# Altium integrated library Connectors.IntLib: 31 symbols
Pins are listed as number, name and electrical type; pins without a type are passive.

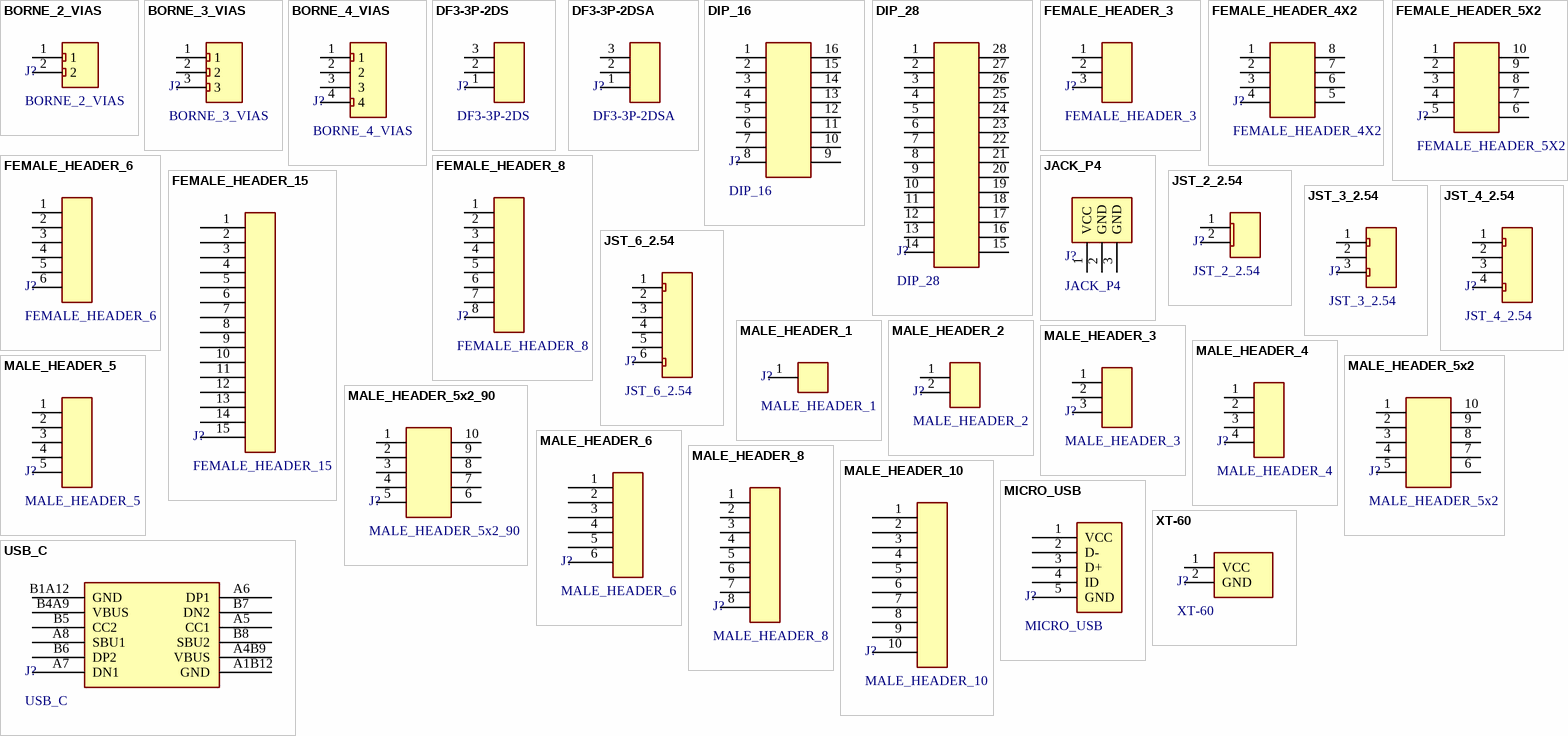
[diagram p0: symbols BORNE_2_VIAS to XT-60]

## BORNE_2_VIAS
designator J?
Borne 2 Vias, 5mm.; JLCPCB PN: C91153
footprint BORNE_2_VIAS
pins: 1, 2

## BORNE_3_VIAS
designator J?
Borne 3 Vias, 5mm.; JLCPCB PN: C91154
footprint BORNE_3_VIAS
pins: 1, 2, 3

## BORNE_4_VIAS
designator J?
Borne 4 Vias, 5mm.; JLCPCB PN: C2915641
footprint BORNE_4_VIAS
pins: 1, 2, 3, 4

## DF3-3P-2DS
designator J?
Angled Female Connector 3 Pins, 2mm.; Digikey PN: H2106-ND
footprint DF3-3P-2DS
pins: 1, 2, 3

## DF3-3P-2DSA
designator J?
Right Female Connector 3 Pins, 2mm.; Digikey PN: H3922-ND
footprint DF3-3P-2DSA
pins: 1, 2, 3

## DIP_16
designator J?
Dip 16 Pins; JLCPCB PN: C2874010
footprint DIP_16
pins: 1, 2, 3, 4, 5, 6, 7, 8, 9, 10, 11, 12, 13, 14, 15, 16

## DIP_28
designator J?
Dip 28 Pins; JLCPCB PN: C2874014
footprint DIP_28
pins: 1, 2, 3, 4, 5, 6, 7, 8, 9, 10, 11, 12, 13, 14, 15, 16, 17, 18, 19, 20, 21, 22, 23, 24, 25, 26, 27, 28

## FEMALE_HEADER_3
designator J?
Female Header Connector 2.54mm 3 Pins.
footprint FEMALE_3
pins: 1, 2, 3

## FEMALE_HEADER_4X2
designator J?
Female Header Connector 2.54mm 4x2 Pins.
footprint FEMALE_4X2
pins: 1, 2, 3, 4, 5, 6, 7, 8

## FEMALE_HEADER_5X2
designator J?
Female Header Connector 2.54mm 5x2 Pins.
footprint FEMALE_5X2
pins: 1, 2, 3, 4, 5, 6, 7, 8, 9, 10

## FEMALE_HEADER_6
designator J?
Female Header Connector 2.54mm 6 Pins.
footprint FEMALE_6
pins: 1, 2, 3, 4, 5, 6

## FEMALE_HEADER_8
designator J?
Female Header Connector 2.54mm 8 Pins.
footprint FEMALE_8
pins: 1, 2, 3, 4, 5, 6, 7, 8

## FEMALE_HEADER_15
designator J?
Female Header Connector 2.54mm 15 Pins.
footprint FEMALE_15
pins: 1, 2, 3, 4, 5, 6, 7, 8, 9, 10, 11, 12, 13, 14, 15

## JACK_P4
designator J?
9V Battery Connector Jack P4.
footprint JACK_P4
pins: 1 VCC, 2 GND, 3 GND

## JST_2_2.54
designator J?
Female Connector JST 2 Vias, 2.54mm.
footprint JST_2_2.54
footprint JST_2_90_2.54
pins: 1, 2

## JST_3_2.54
designator J?
Female Connector JST 3 Vias, 2.54mm, Angled ou Right.
footprint JST_3_2.54
pins: 1, 2, 3

## JST_4_2.54
designator J?
Female Connector JST 4 Vias, 2.54mm.
footprint JST_4_2.54
pins: 1, 2, 3, 4

## JST_6_2.54
designator J?
Female Connector JST 6 Vias, 2.54mm.
footprint JST_6_2.54
pins: 1, 2, 3, 4, 5, 6

## MALE_HEADER_1
designator J?
Male Header Connector 2.54mm 1 Pins.
footprint MALE_1
pins: 1

## MALE_HEADER_2
designator J?
Male Header Connector 2.54mm 2 Pins.
footprint MALE_2
pins: 1, 2

## MALE_HEADER_3
designator J?
Male Header Connector 2.54mm 3 Pins.
footprint MALE_3
pins: 1, 2, 3

## MALE_HEADER_4
designator J?
Male Header Connector 2.54mm 4 Pins.
footprint MALE_4
pins: 1, 2, 3, 4

## MALE_HEADER_5
designator J?
Male Header Connector 2.54mm 5 Pins.
footprint MALE_5
pins: 1, 2, 3, 4, 5

## MALE_HEADER_5x2
designator J?
Male Header Connector 2.54mm 5X2 Pins.
footprint MALE_5X2
pins: 1, 2, 3, 4, 5, 6, 7, 8, 9, 10

## MALE_HEADER_5x2_90
designator J?
Male Header Angled Connector 2.54mm 5X2 Pins.
footprint MALE_5X2_90
pins: 1, 2, 3, 4, 5, 6, 7, 8, 9, 10

## MALE_HEADER_6
designator J?
Male Header Connector 2.54mm 6 Pins.
footprint MALE_6
pins: 1, 2, 3, 4, 5, 6

## MALE_HEADER_8
designator J?
Male Header Connector 2.54mm 8 Pins.
footprint MALE_8
pins: 1, 2, 3, 4, 5, 6, 7, 8

## MALE_HEADER_10
designator J?
Male Header Connector 2.54mm 10 Pins.
footprint MALE_10
pins: 1, 2, 3, 4, 5, 6, 7, 8, 9, 10

## MICRO_USB
designator J?
MICRO USB Connector SMD.; JLCPCB PN: C145792
footprint MICRO_USB
pins: 1 VCC, 2 D-, 3 D+, 4 ID, 5 GND

## USB_C
designator J?
3A USB Type C SMD 16 Pins; JLCPCB PN: C2927037
footprint USB_C
pins: A1B12 GND, A4B9 VBUS, A5 CC1, A6 DP1, A7 DN1, A8 SBU1, B1A12 GND, B4A9 VBUS, B5 CC2, B6 DP2, B7 DN2, B8 SBU2

## XT-60
designator J?
Power Connector XT-60, Male and Female.; JLCPCB PN F: C98734; JLCPCB PN M: C98733
footprint XT-60-Male
footprint XT-60-Female
pins: 1 VCC, 2 GND